# Altium schematic symbol library PL2303HX.SchLib: 1 symbol
Pins are listed as number, name and electrical type; pins without a type are passive.

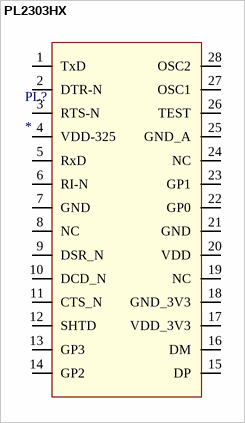
[diagram p0: symbol PL2303HX]

## PL2303HX
designator PL?
footprint PL2303HX (SSOP, 28-Leads, Body 10,20x5,30mm, Pitch 0,65mm)
pins: 1 TxD, 2 DTR-N, 3 RTS-N, 4 VDD-325, 5 RxD, 6 RI-N, 7 GND, 8 NC, 9 DSR_N, 10 DCD_N, 11 CTS_N, 12 SHTD, 13 GP3, 14 GP2, 15 DP, 16 DM, 17 VDD_3V3, 18 GND_3V3, 19 NC, 20 VDD, 21 GND, 22 GP0, 23 GP1, 24 NC, 25 GND_A, 26 TEST, 27 OSC1, 28 OSC2